# Altium schematic symbol library 2P7210A9.SchLib: 1 symbol
Pins are listed as number, name and electrical type; pins without a type are passive.

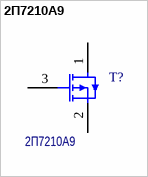
[diagram p0: symbol 2П7210А9]

## 2П7210А9
designator T?, comment Наименование: 2П7210А9  (hidden comment: 2P7210A9)
P channel Power MosFET; Назначение: Транзистор P канальный
footprint KT-93 (SMD-0,5)
pins: 1 С, 2 И, 3 З